# EAGLE library part 691311500106 (library Terminal Blocks)
TERM BLOCK HDR 6POS VERT 5.08MM Manufacturer's datasheet <https://katalog.we-online.com/em/datasheet/691311500106.pdf>
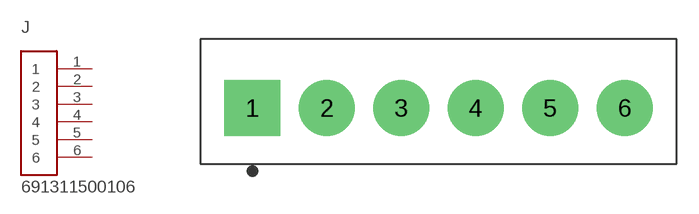
[diagram p0: symbol with the pads of TERMINALBLOCK_PLUGGABLE-6-5.08MM; footprint TERMINALBLOCK_PLUGGABLE-6-5.08MM]

Designator prefix J

## 691311500106 (CREATED_BY: PCBLayout.com; DIGIKEY_PART_NO: 732-2062-ND; MANUFACTURER: WURTH ELEKTRONIK; MPN: 691311500106)  [TERMINALBLOCK_PLUGGABLE-6-5.08MM]
1  1  pas
2  2  pas
3  3  pas
4  4  pas
5  5  pas
6  6  pas

## Footprint TERMINALBLOCK_PLUGGABLE-6-5.08MM (pad centres in mm)
drill 1.6 pad 3.81 square: 1 -12.7,0
drill 1.6 pad 3.81: 2 -7.62,0; 3 -2.54,0; 4 2.54,0; 5 7.62,0; 6 12.7,0